# Altium footprint library Motor_Driver_Pcb.PcbLib: 5 footprints
Each footprint in its own frame and in the unit in brackets; x right, y up, seen from the top. Pads: shape width x height; smd on the part's side, far side on the other; paste and mask are expansions set on the pad; w line width, h text height; cw(c..) or ccw(c..) is an arc to the next point about the centre after c.
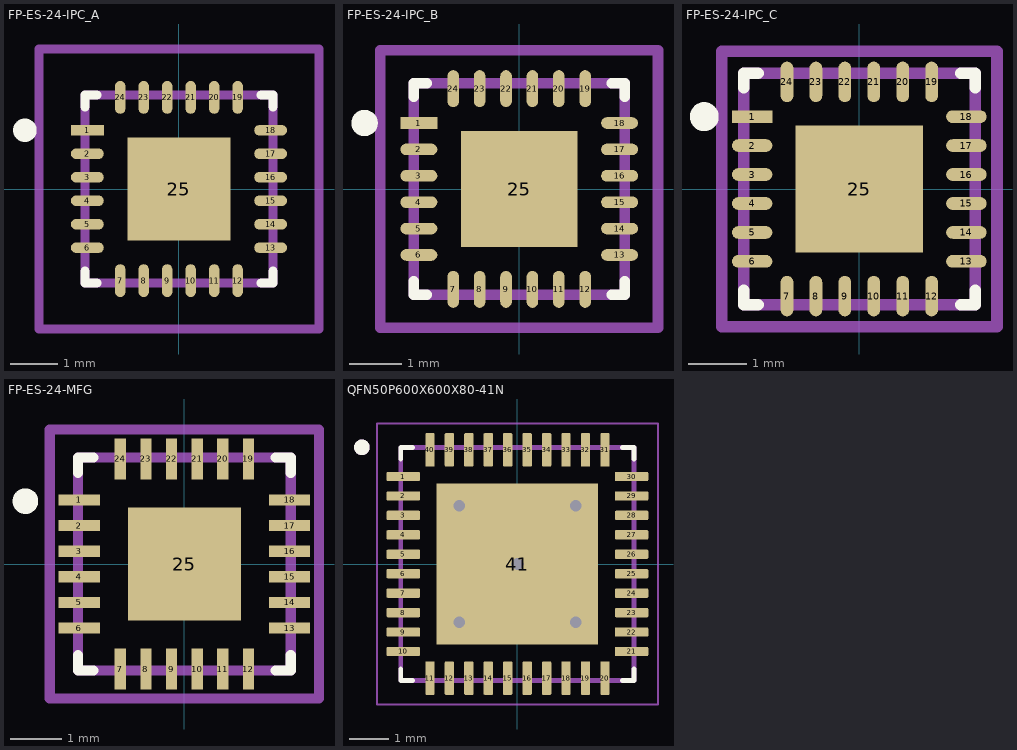
[diagram p0: the footprints below, top view; thin cyan lines are the x and y axes]

## FP-ES-24-IPC_A [mm]
pads (25):
  rect 0.7x0.22 smd paste+0 mask+0: 1(-1.951,1.25)
  rrect100% 0.7x0.22 smd paste+0 mask+0: 2(-1.951,0.75) 3(-1.951,0.25) 4(-1.951,-0.25) 5(-1.951,-0.75) 6(-1.951,-1.25) 13(1.951,-1.25) 14(1.951,-0.75) 15(1.951,-0.25) 16(1.951,0.25) 17(1.951,0.75) 18(1.951,1.25)
  rrect100% 0.22x0.7 smd paste+0 mask+0: 7(-1.25,-1.951) 8(-0.75,-1.951) 9(-0.25,-1.951) 10(0.25,-1.951) 11(0.75,-1.951) 12(1.25,-1.951) 19(1.25,1.951) 20(0.75,1.951) 21(0.25,1.951) 22(-0.25,1.951) 23(-0.75,1.951) 24(-1.25,1.951)
  rect 2.2x2.2 smd paste-1000 mask+0: 25(0,0)
Top Overlay:
  circle w0.25: c-3.279,1.25 r0.125
  lines w0.2: -2,-1.75 -2,-2 -1.75,-2 ; -2,1.75 -2,2 -1.75,2 ; 1.75,-2 2,-2 2,-1.75 ; 1.75,2 2,2 2,1.75
Top Paste:
  rectangle: -0.854,-0.854 0.854,0.854
Mechanical 5:
  lines w0.2: -2.979,-2.979 -2.979,2.979 2.979,2.979 2.979,-2.979 -2.979,-2.979
  text ".Designator" at 0,0.188 h1
Mechanical 13:
  lines w0.2: -2,-2 -2,2 2,2 2,-2 -2,-2
Mechanical 15:
  lines w0.2: -2.979,-2.979 -2.979,2.979 2.979,2.979 2.979,-2.979 -2.979,-2.979
Mechanical 16:
  lines w0.1: -0.5,0 0.5,0 ; 0,-0.5 0,0.5
3D body "IC_Allegro_MicroSystems_A89301GESSR_eec.STEP": height 0.25, standoff 0, extent -2.979,-2.979 2.979,2.979

## FP-ES-24-IPC_B [mm]
pads (25):
  rect 0.7x0.22 smd paste+0 mask+0: 1(-1.901,1.25)
  rrect100% 0.7x0.22 smd paste+0 mask+0: 2(-1.901,0.75) 3(-1.901,0.25) 4(-1.901,-0.25) 5(-1.901,-0.75) 6(-1.901,-1.25) 13(1.901,-1.25) 14(1.901,-0.75) 15(1.901,-0.25) 16(1.901,0.25) 17(1.901,0.75) 18(1.901,1.25)
  rrect100% 0.22x0.7 smd paste+0 mask+0: 7(-1.25,-1.901) 8(-0.75,-1.901) 9(-0.25,-1.901) 10(0.25,-1.901) 11(0.75,-1.901) 12(1.25,-1.901) 19(1.25,1.901) 20(0.75,1.901) 21(0.25,1.901) 22(-0.25,1.901) 23(-0.75,1.901) 24(-1.25,1.901)
  rect 2.2x2.2 smd paste-1000 mask+0: 25(0,0)
Top Overlay:
  circle w0.25: c-2.929,1.25 r0.125
  lines w0.2: -2,-1.75 -2,-2 -1.75,-2 ; -2,1.75 -2,2 -1.75,2 ; 1.75,-2 2,-2 2,-1.75 ; 1.75,2 2,2 2,1.75
Top Paste:
  rectangle: -0.854,-0.854 0.854,0.854
Mechanical 5:
  lines w0.2: -2.629,-2.629 2.629,-2.629 2.629,2.629 -2.629,2.629 -2.629,-2.629
  text ".Designator" at 0,0.188 h1
Mechanical 13:
  lines w0.2: -2,-2 2,-2 2,2 -2,2 -2,-2
Mechanical 15:
  lines w0.2: -2.629,-2.629 2.629,-2.629 2.629,2.629 -2.629,2.629 -2.629,-2.629
Mechanical 16:
  lines w0.1: -0.5,0 0.5,0 ; 0,-0.5 0,0.5
3D body "IC_Allegro_MicroSystems_A89301GESSR_eec.STEP": height 0.25, standoff 0, extent -2.629,-2.629 2.629,2.629

## FP-ES-24-IPC_C [mm]
pads (25):
  rect 0.7x0.22 smd paste+0 mask+0: 1(-1.851,1.25)
  rrect100% 0.7x0.22 smd paste+0 mask+0: 2(-1.851,0.75) 3(-1.851,0.25) 4(-1.851,-0.25) 5(-1.851,-0.75) 6(-1.851,-1.25) 13(1.851,-1.25) 14(1.851,-0.75) 15(1.851,-0.25) 16(1.851,0.25) 17(1.851,0.75) 18(1.851,1.25)
  rrect100% 0.22x0.7 smd paste+0 mask+0: 7(-1.25,-1.851) 8(-0.75,-1.851) 9(-0.25,-1.851) 10(0.25,-1.851) 11(0.75,-1.851) 12(1.25,-1.851) 19(1.25,1.851) 20(0.75,1.851) 21(0.25,1.851) 22(-0.25,1.851) 23(-0.75,1.851) 24(-1.25,1.851)
  rect 2.2x2.2 smd paste-1000 mask+0: 25(0,0)
Top Overlay:
  circle w0.25: c-2.679,1.25 r0.125
  lines w0.2: -2,-1.75 -2,-2 -1.75,-2 ; -2,1.75 -2,2 -1.75,2 ; 1.75,-2 2,-2 2,-1.75 ; 1.75,2 2,2 2,1.75
Top Paste:
  rectangle: -0.854,-0.854 0.854,0.854
Mechanical 5:
  lines w0.2: -2.379,-2.379 -2.379,2.379 2.379,2.379 2.379,-2.379 -2.379,-2.379
  text ".Designator" at 0,0.188 h1
Mechanical 13:
  lines w0.2: -2,-2 -2,2 2,2 2,-2 -2,-2
Mechanical 15:
  lines w0.2: -2.379,-2.379 -2.379,2.379 2.379,2.379 2.379,-2.379 -2.379,-2.379
Mechanical 16:
  lines w0.1: -0.5,0 0.5,0 ; 0,-0.5 0,0.5
3D body "IC_Allegro_MicroSystems_A89301GESSR_eec.STEP": height 0.25, standoff 0, extent -2.379,-2.379 2.379,2.379

## FP-ES-24-MFG [mm]
pads (25):
  rect 0.8x0.22 smd paste+0 mask+0: 1(-2.05,1.25) 2(-2.05,0.75) 3(-2.05,0.25) 4(-2.05,-0.25) 5(-2.05,-0.75) 6(-2.05,-1.25) 13(2.05,-1.25) 14(2.05,-0.75) 15(2.05,-0.25) 16(2.05,0.25) 17(2.05,0.75) 18(2.05,1.25)
  rect 0.22x0.8 smd paste+0 mask+0: 7(-1.25,-2.05) 8(-0.75,-2.05) 9(-0.25,-2.05) 10(0.25,-2.05) 11(0.75,-2.05) 12(1.25,-2.05) 19(1.25,2.05) 20(0.75,2.05) 21(0.25,2.05) 22(-0.25,2.05) 23(-0.75,2.05) 24(-1.25,2.05)
  rect 2.2x2.2 smd paste+0 mask+0: 25(0,0)
Top Overlay:
  circle w0.25: c-3.1,1.225 r0.125
  lines w0.2: -2.075,-1.775 -2.075,-2.075 -1.775,-2.075 ; -2.075,1.775 -2.075,2.075 -1.775,2.075 ; 1.775,-2.075 2.075,-2.075 2.075,-1.775 ; 1.775,2.075 2.075,2.075 2.075,1.775
Mechanical 5:
  lines w0.2: -2.625,-2.625 2.625,-2.625 2.625,2.625 -2.625,2.625 -2.625,-2.625
  text ".Designator" at 0,0.188 h1
Mechanical 13:
  lines w0.2: -2.075,-2.075 2.075,-2.075 2.075,2.075 -2.075,2.075 -2.075,-2.075
Mechanical 15:
  lines w0.2: -2.625,-2.625 2.625,-2.625 2.625,2.625 -2.625,2.625 -2.625,-2.625
Mechanical 16:
  lines w0.1: -0.5,0 0.5,0 ; 0,-0.5 0,0.5
3D body "IC_Allegro_MicroSystems_A89301GESSR_eec.STEP": height 0.25, standoff 0, extent -2.625,-2.625 2.625,2.625

## QFN50P600X600X80-41N [mm]
pads (41):
  rrect25% 0.86x0.24 smd: 1(-2.935,2.25) 2(-2.935,1.75) 3(-2.935,1.25) 4(-2.935,0.75) 5(-2.935,0.25) 6(-2.935,-0.25) 7(-2.935,-0.75) 8(-2.935,-1.25) 9(-2.935,-1.75) 10(-2.935,-2.25) 21(2.935,-2.25) 22(2.935,-1.75) 23(2.935,-1.25) 24(2.935,-0.75) 25(2.935,-0.25) 26(2.935,0.25) 27(2.935,0.75) 28(2.935,1.25) 29(2.935,1.75) 30(2.935,2.25)
  rrect25% 0.24x0.86 smd: 11(-2.25,-2.935) 12(-1.75,-2.935) 13(-1.25,-2.935) 14(-0.75,-2.935) 15(-0.25,-2.935) 16(0.25,-2.935) 17(0.75,-2.935) 18(1.25,-2.935) 19(1.75,-2.935) 20(2.25,-2.935) 31(2.25,2.935) 32(1.75,2.935) 33(1.25,2.935) 34(0.75,2.935) 35(0.25,2.935) 36(-0.25,2.935) 37(-0.75,2.935) 38(-1.25,2.935) 39(-1.75,2.935) 40(-2.25,2.935)
  rect 4.15x4.15 smd paste-3: 41(0,0)
via -1.5,1.5 diameter 0.6 hole 0.3
via 1.5,1.5 diameter 0.6 hole 0.3
via 0,0 diameter 0.6 hole 0.3
via -1.5,-1.5 diameter 0.6 hole 0.3
via 1.5,-1.5 diameter 0.6 hole 0.3
Top Overlay:
  circle w0.2: c-4,3 r0.1
  lines w0.127: -3,-2.7 -3,-3 -2.7,-3 ; -3,2.7 -3,3 -2.7,3 ; 2.7,-3 3,-3 3,-2.7 ; 2.7,3 3,3 3,2.7
Top Paste:
  region: 1.705,-1.705 0.385,-1.705 0.385,-0.385 1.705,-0.385
  region: -0.375,-1.705 -1.695,-1.705 -1.695,-0.385 -0.375,-0.385
  region: 1.705,0.375 0.385,0.375 0.385,1.695 1.705,1.695
  region: -0.375,0.375 -1.695,0.375 -1.695,1.695 -0.375,1.695
Mechanical 13:
  circle w0.2: c-4,3 r0.1
  lines w0.127: -3,-3 -3,3 3,3 3,-3 -3,-3
  text ".designator" at -2.667,-0.353 h1.5
Mechanical 15:
  lines w0.05: -3.615,-3.615 -3.615,3.615 3.615,3.615 3.615,-3.615 -3.615,-3.615
3D body "step_temp.STEP": height 0.8, standoff 0, extent -3,-3 3,3